# Altium footprint library SIM7200.PcbLib: 1 footprints
Each footprint in its own frame and in the unit in brackets; x right, y up, seen from the top. Pads: shape width x height; smd on the part's side, far side on the other; paste and mask are expansions set on the pad; w line width, h text height; cw(c..) or ccw(c..) is an arc to the next point about the centre after c.
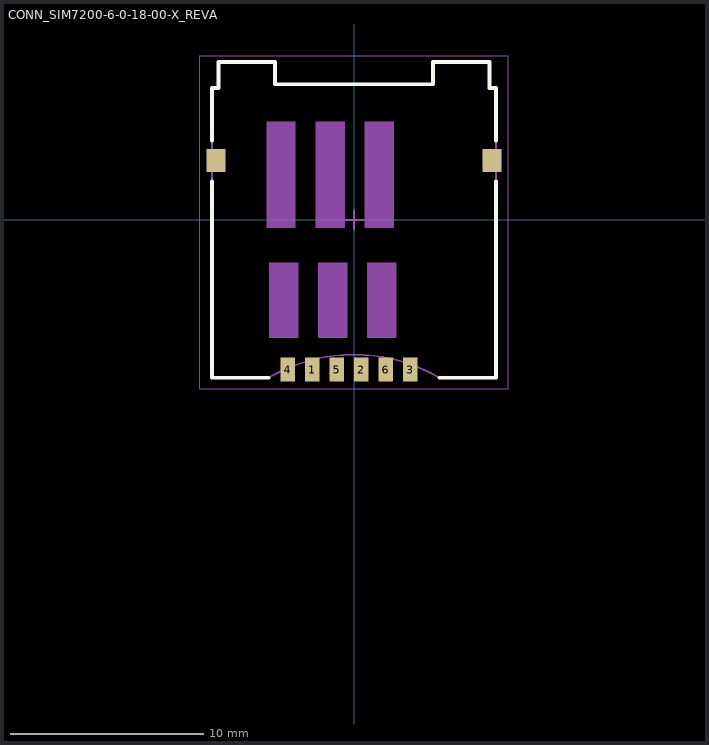
[diagram p0: the footprint, top view; thin cyan lines are the x and y axes]

## CONN_SIM7200-6-0-18-00-X_REVA [mm]
pads (8):
  rect 0.75x1.25 smd: 1(-2.16,-7.75) 2(0.38,-7.75) 3(2.92,-7.75) 4(-3.43,-7.75) 5(-0.89,-7.75) 6(1.65,-7.75)
  rect 1x1.2 smd: ""(-7.15,3.075) ""(7.15,3.075)
Top Overlay:
  lines w0.2: -7.35,2 -7.35,-8.175 -4.42,-8.175 ; -7.35,4.1 -7.35,6.825 -7.025,6.825 -7.025,8.175 -4.095,8.175 -4.095,7.025 4.095,7.025 4.095,8.175 7.025,8.175 7.025,6.825 7.35,6.825 7.35,4.1 ; 4.42,-8.175 7.35,-8.175 7.35,2
Mechanical 13:
  lines w0.1: -4.42,-8.175 -7.35,-8.175 -7.35,6.825 -7.025,6.825 -7.025,8.175 -4.095,8.175 -4.095,7.025 4.095,7.025 4.095,8.175 7.025,8.175 7.025,6.825 7.35,6.825 7.35,-8.175 4.42,-8.175 ; -4.37,-8.146 cw(c0,-15.715) 4.37,-8.146
Mechanical 15:
  region: 2.18,-6.105 0.68,-6.105 0.68,-2.215 2.18,-2.215
  region: -0.49,-0.405 -1.99,-0.405 -1.99,5.095 -0.49,5.095
  region: -0.36,-6.105 -1.86,-6.105 -1.86,-2.215 -0.36,-2.215
  region: 2.05,-0.405 0.55,-0.405 0.55,5.095 2.05,5.095
  region: -2.9,-6.105 -4.4,-6.105 -4.4,-2.215 -2.9,-2.215
  region: -3.03,-0.405 -4.53,-0.405 -4.53,5.095 -3.03,5.095
  lines w0.05: -8,-8.75 8,-8.75 8,8.5 -8,8.5 -8,-8.75
  lines w0.1: -0.5,0 0.5,0 ; 0,-0.5 0,0.5
3D body "SIM7200.STEP": height 1.74, standoff -0.01, extent -7.355,-8.236 7.345,8.114